# Altium schematic symbol library AltiumDesigner.SchLib: 2 symbols
Pins are listed as number, name and electrical type; pins without a type are passive.

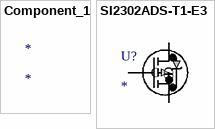
[diagram p0: symbols Component_1 to SI2302ADS-T1-E3]

## Component_1
designator *

## SI2302ADS-T1-E3
designator U?
Imported; Manufacturer_Part_Number: SI2302ADS-T1-E3; Vendor: Vishay; Built_By: EMA_UL_Team; C: Copyright (C) 2015 Accelerated Designs. All rights reserved; RefDes: RefDes; Type: DEV; Value: Value
footprint TO-236
pins: 1 G, 2 S, 3 D